# Altium footprint library Attenuators.PcbLib: 1 footprints
Each footprint in its own frame and in the unit in brackets; x right, y up, seen from the top. Pads: shape width x height; smd on the part's side, far side on the other; paste and mask are expansions set on the pad; w line width, h text height; cw(c..) or ccw(c..) is an arc to the next point about the centre after c.
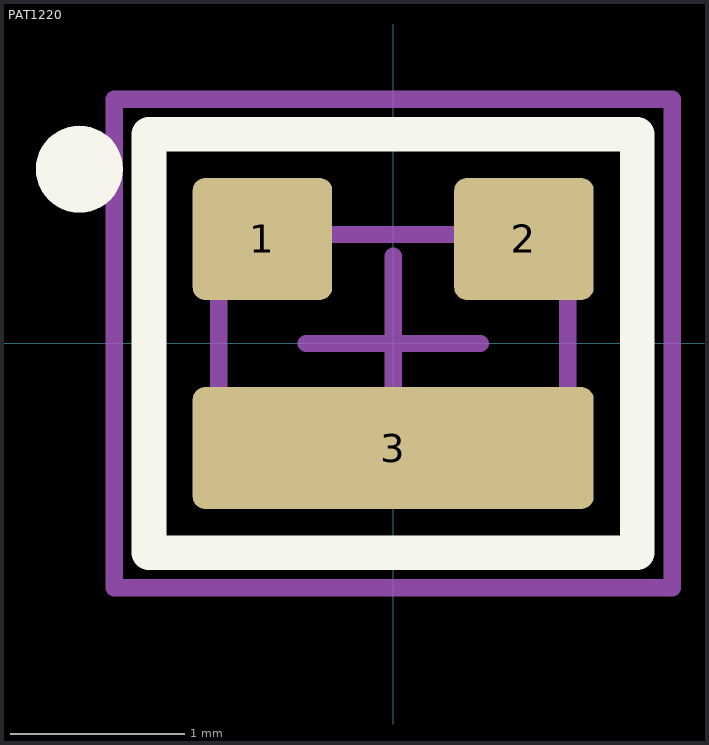
[diagram p0: the footprint, top view; thin cyan lines are the x and y axes]

## PAT1220 [mm]
pads (4):
  rrect20% 0.8x0.7 smd: 1(-0.75,0.6) 2(0.75,0.6)
  rrect20% 2.3x0.7 smd: 3(0,-0.6)
  round 0.5 on Top Overlay: ""(-1.8,1)
Top Overlay:
  lines w0.2: -1.4,-1.2 1.4,-1.2 1.4,1.2 -1.4,1.2 -1.4,-1.2
Mechanical 1:
  lines w0.1: -1,-0.625 -1,0.625 1,0.625 1,-0.625 -1,-0.625
Mechanical 15:
  lines w0.1: -0.5,0 0.5,0 ; 0,-0.5 0,0.5 ; -1.6,-1.4 -1.6,1.4 1.6,1.4 1.6,-1.4 -1.6,-1.4
3D body "PAT1220.STEP": height 0.5, standoff 0, extent -1,-0.625 1,0.625